# EAGLE library part ACR1000 (library ACR1000)
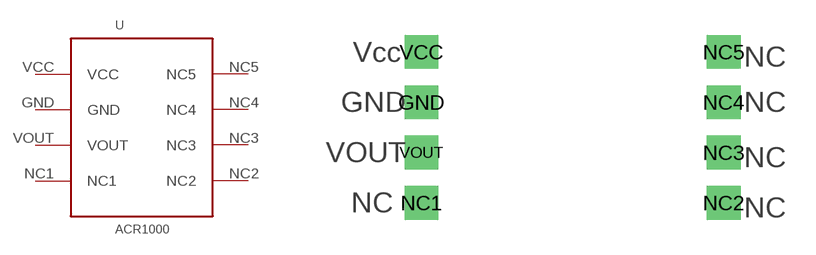
[diagram p0: symbol with the pads of ACR1000; footprint ACR1000]

Designator prefix -

## ACR1000  [ACR1000]
GND  GND
NC1  NC1
NC2  NC2
NC3  NC3
NC4  NC4
NC5  NC5
VCC  VCC
VOUT  VOUT

## Footprint ACR1000 (pad centres in mm)
drill 0.9 pad 1.676 square: GND -7.5,1.25; NC1 -7.5,-3.75; NC2 7.5,-3.75; NC3 7.5,-1.25; NC4 7.5,1.25; NC5 7.5,3.75; VCC -7.5,3.75; VOUT -7.5,-1.25